# EAGLE library part CON-2X7 (library ds_con)
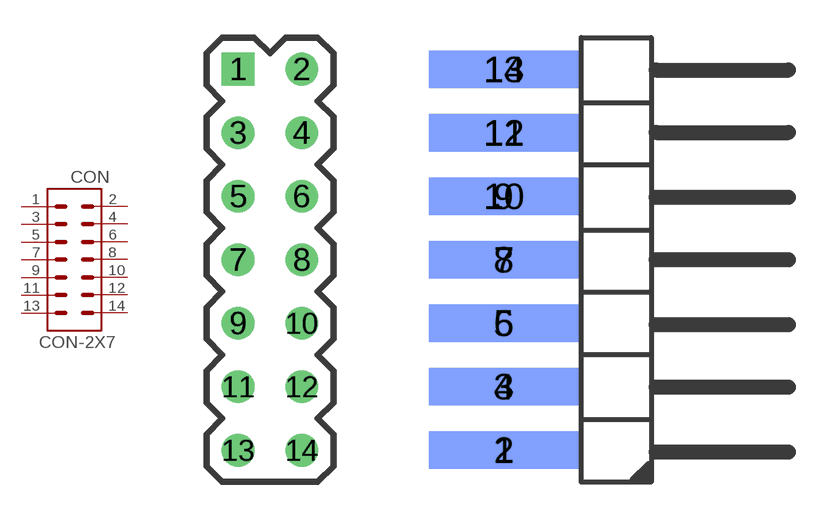
[diagram p32: symbol with the pads of 2X7; footprints 2X7, 2X7-SIDE]

Designator prefix CON

## CON-2X7  [2X7]
1  1
2  2
3  3
4  4
5  5
6  6
7  7
8  8
9  9
10  10
11  11
12  12
13  13
14  14

## CON-2X72  [2X7-SIDE]
Pads as for 2X7

## Footprint 2X7 (pad centres in mm)
drill 0.8 square: 1 -1.27,7.62
drill 0.8: 2 1.27,7.62; 3 -1.27,5.08; 4 1.27,5.08; 5 -1.27,2.54; 6 1.27,2.54; 7 -1.27,0; 8 1.27,0; 9 -1.27,-2.54; 10 1.27,-2.54; 11 -1.27,-5.08; 12 1.27,-5.08; 13 -1.27,-7.62; 14 1.27,-7.62

## Footprint 2X7-SIDE (pad centres in mm)
smd 6 x 1.5: 1 -3,-7.62; 3 -3,-5.08; 5 -3,-2.54; 7 -3,0; 9 -3,2.54; 11 -3,5.08; 13 -3,7.62
smd 6 x 1.5 bottom: 2 -3,-7.62; 4 -3,-5.08; 6 -3,-2.54; 8 -3,0; 10 -3,2.54; 12 -3,5.08; 14 -3,7.62